# EAGLE library part MC000093 (library MC000093)
8-way 3.5mm, right angle, pluggable Terminal Block Header If you need a different configuration, e.g. less or more pins, see data sheet (MC0000 - Series) for possible parts and alter this library accordingly. The counterpart for this configuration is MC000061.
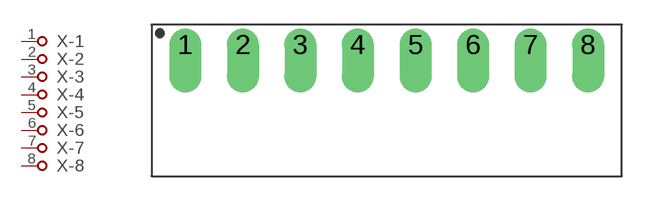
[diagram p0: symbol with the pads of MC000093-08; footprint MC000093-08]

Designator prefix X; gates -1=PIN -2=PIN -3=PIN -4=PIN -5=PIN -6=PIN -7=PIN -8=PIN

## MC000093 (MFG: Multicomp; MPN: MC000093)  [MC000093-08]
1  -1:P  pas
2  -2:P  pas
3  -3:P  pas
4  -4:P  pas
5  -5:P  pas
6  -6:P  pas
7  -7:P  pas
8  -8:P  pas

## Footprint MC000093-08 (pad centres in mm)
drill 1.3 pad 1.93 offset: 1 -12.3,1.225; 2 -8.8,1.225; 3 -5.3,1.225; 4 -1.8,1.225; 5 1.7,1.225; 6 5.2,1.225; 7 8.7,1.225; 8 12.2,1.225